# EAGLE library part TD-131-T-A (library SAMTEC-Txx_By_element14_Batch_1)
CONN RECEPTACLE, 2.54MM, THT VERT, 62WAY
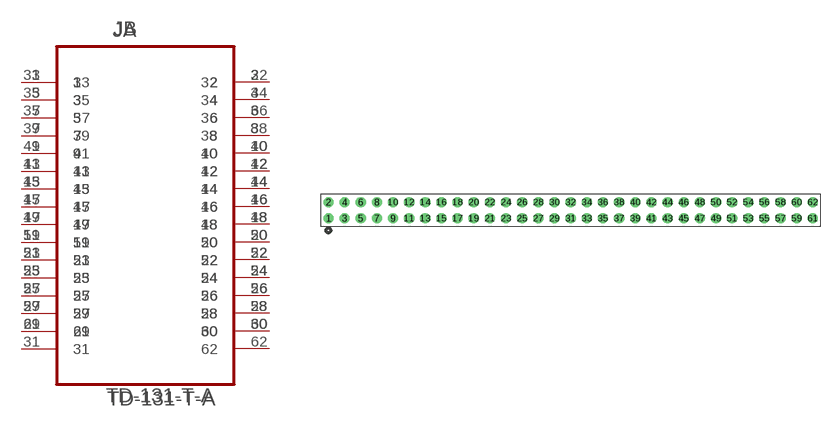
[diagram p95: symbol with the pads of SAMTEC_TD-131-T-A; footprint SAMTEC_TD-131-T-A]

Designator prefix J; gates A=TD-131-T-A_A B=TD-131-T-A_B

## TD-131-T-A (MPN: TD-131-T-A; OC_FARNELL: 2020261; OC_NEWARK: -; PACKAGE: RECEPTACLE, 2.54MM, THT VERT, 62WAY; SUPPLIER: SAMTEC)  [SAMTEC_TD-131-T-A]
1  A:1  pas
2  A:2  pas
3  A:3  pas
4  A:4  pas
5  A:5  pas
6  A:6  pas
7  A:7  pas
8  A:8  pas
9  A:9  pas
10  A:10  pas
11  A:11  pas
12  A:12  pas
13  A:13  pas
14  A:14  pas
15  A:15  pas
16  A:16  pas
17  A:17  pas
18  A:18  pas
19  A:19  pas
20  A:20  pas
21  A:21  pas
22  A:22  pas
23  A:23  pas
24  A:24  pas
25  A:25  pas
26  A:26  pas
27  A:27  pas
28  A:28  pas
29  A:29  pas
30  A:30  pas
31  A:31  pas
32  B:32  pas
33  B:33  pas
34  B:34  pas
35  B:35  pas
36  B:36  pas
37  B:37  pas
38  B:38  pas
39  B:39  pas
40  B:40  pas
41  B:41  pas
42  B:42  pas
43  B:43  pas
44  B:44  pas
45  B:45  pas
46  B:46  pas
47  B:47  pas
48  B:48  pas
49  B:49  pas
50  B:50  pas
51  B:51  pas
52  B:52  pas
53  B:53  pas
54  B:54  pas
55  B:55  pas
56  B:56  pas
57  B:57  pas
58  B:58  pas
59  B:59  pas
60  B:60  pas
61  B:61  pas
62  B:62  pas

## Footprint SAMTEC_TD-131-T-A (pad centres in mm)
drill 1.067: 1 -76.2,-2.54; 2 -76.2,0; 3 -73.66,-2.54; 4 -73.66,0; 5 -71.12,-2.54; 6 -71.12,0; 7 -68.58,-2.54; 8 -68.58,0; 9 -66.04,-2.54; 10 -66.04,0; 11 -63.5,-2.54; 12 -63.5,0; 13 -60.96,-2.54; 14 -60.96,0; 15 -58.42,-2.54; 16 -58.42,0; 17 -55.88,-2.54; 18 -55.88,0; 19 -53.34,-2.54; 20 -53.34,0; 21 -50.8,-2.54; 22 -50.8,0; 23 -48.26,-2.54; 24 -48.26,0; 25 -45.72,-2.54; 26 -45.72,0; 27 -43.18,-2.54; 28 -43.18,0; 29 -40.64,-2.54; 30 -40.64,0; 31 -38.1,-2.54; 32 -38.1,0; 33 -35.56,-2.54; 34 -35.56,0; 35 -33.02,-2.54; 36 -33.02,0; 37 -30.48,-2.54; 38 -30.48,0; 39 -27.94,-2.54; 40 -27.94,0; 41 -25.4,-2.54; 42 -25.4,0; 43 -22.86,-2.54; 44 -22.86,0; 45 -20.32,-2.54; 46 -20.32,0; 47 -17.78,-2.54; 48 -17.78,0; 49 -15.24,-2.54; 50 -15.24,0; 51 -12.7,-2.54; 52 -12.7,0; 53 -10.16,-2.54; 54 -10.16,0; 55 -7.62,-2.54; 56 -7.62,0; 57 -5.08,-2.54; 58 -5.08,0; 59 -2.54,-2.54; 60 -2.54,0; 61 0,-2.54; 62 0,0